# Altium integrated library ACS711KEXLT-15AB-T.IntLib: 1 symbol
Pins are listed as number, name and electrical type; pins without a type are passive.

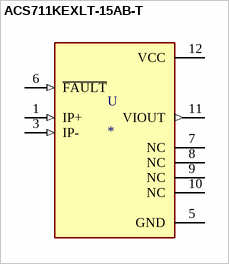
[diagram p0: symbol ACS711KEXLT-15AB-T]

## ACS711KEXLT-15AB-T
designator U
Current Sensor 15.5A 1 Channel Hall Effect, Open Loop Bidirectional 12-PowerWFQFN; MP: ACS711KEXLT-15AB-T; MF: Allegro MicroSystems LLC; Availability: Unavailable; SnapEDA_Link: https://www.snapeda.com/parts/ACS711KEXLT-15AB-T/Allegro%20MicroSystems%20LLC/view-part/474308/?ref=snap; Value: *; Price: None; Package: PowerWFQFN-12 Allegro MicroSystems LLC
footprint SENSOR_ACS711KEXLT-15AB-T
pins: 1 IP+ (in), 3 IP- (in), 5 GND (power), 6 ~{FAULT} (in), 7 NC, 8 NC, 9 NC, 10 NC, 11 VIOUT (out), 12 VCC (power)